# EAGLE library part SFM-110-02-X-DH (library SFM-110-02-X-DH)
0.050"X0.050" SOCKET STRIP ASSEMBLY.
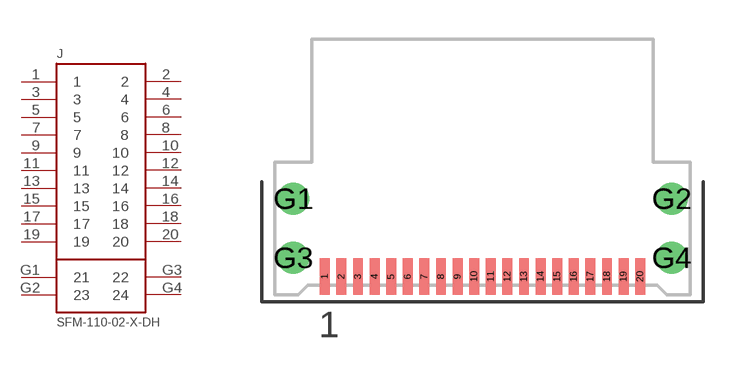
[diagram p0: symbol with the pads of SFM-110-02-X-DH; footprint SFM-110-02-X-DH]

Designator prefix J

## SFM-110-02-X-DH  [SFM-110-02-X-DH]
1  1
2  2
3  3
4  4
5  5
6  6
7  7
8  8
9  9
10  10
11  11
12  12
13  13
14  14
15  15
16  16
17  17
18  18
19  19
20  20
G1  21
G2  23
G3  22
G4  24

## Footprint SFM-110-02-X-DH (pad centres in mm)
0.050"X0.050" SOCKET STRIP ASSEMBLY.
smd 0.381 x 1.397: 1 -6.032,-4.128; 2 -5.397,-4.128; 3 -4.763,-4.128; 4 -4.128,-4.128; 5 -3.493,-4.128; 6 -2.857,-4.128; 7 -2.223,-4.128; 8 -1.587,-4.128; 9 -0.953,-4.128; 10 -0.318,-4.128; 11 0.318,-4.128; 12 0.953,-4.128; 13 1.587,-4.128; 14 2.223,-4.128; 15 2.857,-4.128; 16 3.493,-4.128; 17 4.128,-4.128; 18 4.763,-4.128; 19 5.397,-4.128; 20 6.032,-4.128
drill 0.711 pad 1.143 round: G1 -7.239,-1.143; G2 7.239,-1.143; G3 -7.239,-3.404; G4 7.239,-3.404